# Altium footprint library Footprints.PcbLib: 18 footprints (part 1 of 2)
Each footprint in its own frame and in the unit in brackets; x right, y up, seen from the top. Pads: shape width x height; smd on the part's side, far side on the other; paste and mask are expansions set on the pad; w line width, h text height; cw(c..) or ccw(c..) is an arc to the next point about the centre after c.
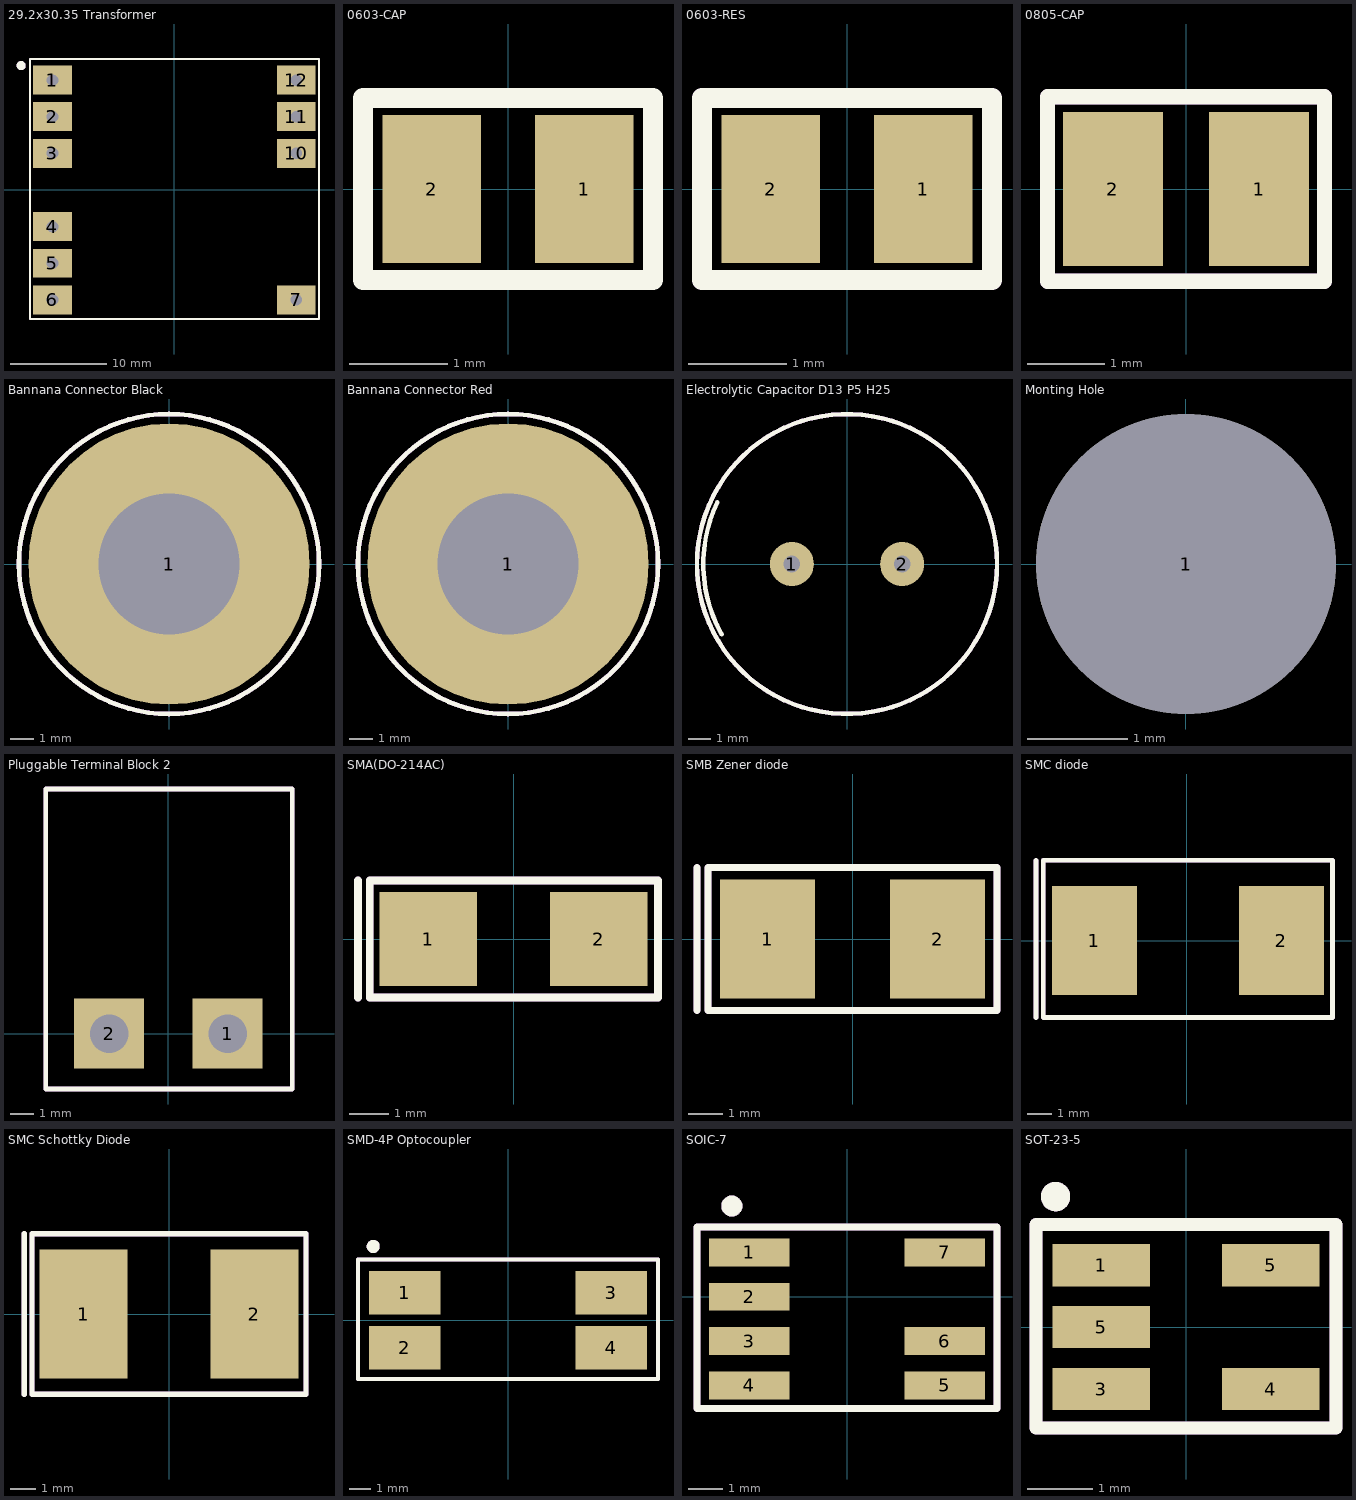
[diagram p0: the footprints below, top view; thin cyan lines are the x and y axes]

## 29.2x30.35 Transformer [mm]
pads (10):
  rect 4x3 hole 1.2: 1(-12.65,11.4) 2(-12.65,7.6) 3(-12.65,3.8) 4(-12.65,-3.8) 5(-12.65,-7.6) 6(-12.65,-11.4) 7(12.65,-11.4) 10(12.65,3.8) 11(12.65,7.6) 12(12.65,11.4)
Top Overlay:
  circle w0.5: c-15.9,12.9 r0.224
  lines w0.2: -15,-13.4 15,-13.4 15,13.6 -15,13.6 -15,-13.4
Mechanical 29:
  circle w0.5: c-15.9,12.9 r0.224
  lines w0.2: -15,-13.4 15,-13.4 15,13.6 -15,13.6 -15,-13.4
  text ".Designator" at -4.998,-0.333 h1
3D body "PQ26-25.stp": height 29.04, standoff -3.76, extent -14.55,-13.2 14.75,13.3

## 0603-CAP [mm]
pads (2):
  rect 1x1.5 smd mask+0.04: 1(0.775,0) 2(-0.775,0)
Top Overlay:
  lines w0.2: -1.475,-0.925 1.475,-0.925 1.475,0.925 -1.475,0.925 -1.475,-0.925
Mechanical 29:
  text ".Designator" at -4.998,-0.333 h1
3D body "0603 Cap.STEP": height 0.94, standoff 0, extent -0.8,-0.4 0.8,0.4

## 0603-RES [mm]
pads (2):
  rect 1x1.5 smd mask+0.04: 1(0.775,0) 2(-0.775,0)
Top Overlay:
  lines w0.2: -1.475,-0.925 1.475,-0.925 1.475,0.925 -1.475,0.925 -1.475,-0.925
Mechanical 29:
  lines w0.2: -1.475,-0.925 -1.475,0.925 1.475,0.925 1.475,-0.925 -1.475,-0.925
  text ".Designator" at -4.998,-0.333 h1
3D body "res 0603.STEP": height 0.45, standoff 0, extent -0.8,-0.4 0.8,0.4

## 0805-CAP [mm]
pads (2):
  rect 1.3x2 smd mask+0.04: 1(0.95,0) 2(-0.95,0)
Top Overlay:
  lines w0.2: -1.8,-1.2 -1.8,1.2 1.8,1.2 1.8,-1.2 -1.8,-1.2
Mechanical 29:
  lines w0.2: -1.8,-1.2 1.8,-1.2 1.8,1.2 -1.8,1.2 -1.8,-1.2
  text ".Designator" at -4.998,-0.333 h1
3D body "0805 Cap.STEP": height 1.45, standoff 0, extent -1,-0.625 1,0.625

## Bannana Connector Black [mm]
pads (1):
  round 12 hole 6: 1(0,0)
Top Overlay:
  circle w0.2: c0,0 r6.401
Mechanical 29:
  circle w0.2: c0,0 r6.4
  text ".Designator" at -4.998,-0.333 h1
3D body "Banana Connector - 4.00mm - Short - Black.stp": height 8.46, standoff -6.48, extent -6.769,-6.769 6.769,12.56

## Bannana Connector Red [mm]
pads (1):
  round 12 hole 6: 1(0,0)
Top Overlay:
  circle w0.2: c0,0 r6.401
Mechanical 29:
  circle w0.2: c0,0 r6.4
  text ".Designator" at -4.998,-0.333 h1
3D body "Banana Connector - 4.00mm - Short - Red.stp": height 8.46, standoff -6.48, extent -6.769,-6.769 6.769,12.56

## Electrolytic Capacitor D13 P5 H25 [mm]
pads (2):
  round 2 hole 0.75: 1(-2.5,0) 2(2.5,0)
Top Overlay:
  circle w0.2: c0,0 r6.8
  lines w0.2: -5.878,2.803 ccw(c0,0) -5.684,-3.179
Mechanical 29:
  circle w0.2: c0,0 r6.8
  text ".Designator" at -4.998,-0.333 h1
3D body "CP_Radial_D13.0mm_H25.0mm_P5.00mm.step": height 25, standoff -3, extent -6.505,-6.5 6.505,6.5

## Monting Hole [mm]
pads (1):
  round 3 hole 3: 1(0,0)

## Pluggable Terminal Block 2 [mm]
pads (2):
  rect 3x3 hole 1.65: 1(2.54,0) 2(-2.54,0)
Top Overlay:
  lines w0.2: -5.25,-2.375 -5.25,10.475 5.3,10.475 5.3,-2.375 -5.25,-2.375
Mechanical 29:
  lines w0.2: -5.25,-2.375 -5.25,10.475 5.3,10.475 5.3,-2.375 -5.25,-2.375
  text ".Designator" at -3.571,-0.171 h0.75
3D body "User Library-5EHDR_2P.SLDPRT": height 8.47, standoff -4, extent -5,-1.8 5,10.2

## SMA(DO-214AC) [mm]
pads (2):
  rect 2.5x2.4 smd: 1(-2.2,0) 2(2.175,0)
Top Overlay:
  lines w0.2: -4,-1.5 -4,1.5 ; -3.7,-1.5 3.7,-1.5 3.7,1.5 -3.7,1.5 -3.7,-1.5
Mechanical 29:
  lines w0.2: -4,-1.5 -4,1.5 ; -3.7,-1.5 -3.7,1.5 3.7,1.5 3.7,-1.5 -3.7,-1.5
  text ".Designator" at -4.998,-0.333 h1
3D body "SMA(DO-214AC).STEP": height 2.5, standoff 0, extent -2.57,-1.28 2.57,1.28

## SMB Zener diode [mm]
pads (2):
  rect 2.8x3.5 smd: 1(-2.5,0) 2(2.5,0)
Top Overlay:
  lines w0.2: -4.575,-2.1 -4.575,2.1 ; -4.25,-2.1 4.25,-2.1 4.25,2.1 -4.25,2.1 -4.25,-2.1
Mechanical 29:
  lines w0.2: -4.575,-2.1 -4.575,2.1 ; -4.25,-2.1 -4.25,2.1 4.25,2.1 4.25,-2.1 -4.25,-2.1
  text ".Designator" at -4.998,-0.333 h1
3D body "SMBJ36.STEP": height 2.65, standoff 0, extent -2.67,-1.813 2.67,1.813

## SMC diode [mm]
pads (2):
  rect 3.5x4.5 smd: 1(-3.8,0) 2(3.9,0)
Top Overlay:
  lines w0.2: -6.2,-3.177 -6.2,3.3 ; -5.9,-3.175 6,-3.175 6,3.302 -5.9,3.302 -5.9,-3.175
Mechanical 29:
  lines w0.2: -6.2,-3.177 -6.2,3.3 ; -5.9,-3.175 -5.9,3.302 6,3.302 6,-3.175 -5.9,-3.175
  text ".Designator" at -4.998,-0.333 h1
3D body "SMCJ85A.STEP": height 2.62, standoff 0, extent -3.97,-2.953 3.97,2.953

## SMC Schottky Diode [mm]
pads (2):
  rect 3.4x5 smd: 1(-3.3,0) 2(3.3,0)
Top Overlay:
  lines w0.2: -5.6,-3.1 -5.6,3.1 ; -5.3,-3.1 5.3,-3.1 5.3,3.1 -5.3,3.1 -5.3,-3.1
Mechanical 29:
  lines w0.2: -5.6,-3.1 -5.6,3.1 ; -5.3,-3.1 -5.3,3.1 5.3,3.1 5.3,-3.1 -5.3,-3.1
  text ".Designator" at -4.998,-0.333 h1
3D body "SMC.STEP": height 2.62, standoff 0, extent -3.97,-2.953 3.97,2.953

## SMD-4P Optocoupler [mm]
pads (4):
  rect 3.3x2 smd: 1(-4.75,1.27) 2(-4.75,-1.27) 3(4.75,1.27) 4(4.75,-1.27)
Top Overlay:
  circle w0.4: c-6.2,3.4 r0.1
  lines w0.2: -6.9,-2.7 -6.9,2.8 6.9,2.8 6.9,-2.7 -6.9,-2.7
Mechanical 29:
  circle w0.4: c-6.2,3.4 r0.1
  lines w0.2: -6.9,-2.7 6.9,-2.7 6.9,2.8 -6.9,2.8 -6.9,-2.7
  text ".Designator" at -4.998,-0.333 h1
3D body "SMD-4P Optocoupler.STEP": height 3.85, standoff 0, extent -5.08,-2.3 5.08,2.3

## SOIC-7 [mm]
pads (7):
  rect 2.3x0.8 smd: 1(-2.8,1.27) 2(-2.8,0) 3(-2.8,-1.27) 4(-2.8,-2.54) 5(2.8,-2.54) 6(2.8,-1.27) 7(2.8,1.27)
Top Overlay:
  circle w0.4: c-3.3,2.6 r0.1
  lines w0.2: -4.3,-3.2 4.3,-3.2 4.3,2 -4.3,2 -4.3,-3.2
Mechanical 29:
  circle w0.4: c-3.3,2.6 r0.1
  lines w0.2: -4.3,-3.2 -4.3,2 4.3,2 4.3,-3.2 -4.3,-3.2
  text ".Designator" at -4.998,-0.333 h1
3D body "SOIC-7.STEP": height 1.75, standoff 0, extent -2.997,-3.101 2.997,1.801

## SOT-23-5 [mm]
pads (5):
  rect 1.5x0.65 smd: 1(-1.3,0.95) 3(-1.3,-0.95) 4(1.3,-0.95) 5(-1.3,0) 5(1.3,0.95)
Top Overlay:
  circle w0.25: c-2,2 r0.1
  lines w0.2: -2.3,-1.55 -2.3,1.575 2.3,1.575 2.3,-1.55 -2.3,-1.55
Mechanical 29:
  circle w0.25: c-2,2 r0.1
  lines w0.2: -2.3,-1.55 -2.3,1.575 2.3,1.575 2.3,-1.55 -2.3,-1.55
  text ".Designator" at -4.998,-0.333 h1
3D body "SN74AHCT1G125DBVT.STEP": height 1.45, standoff 0, extent -1.4,-1.45 1.4,1.45